# Altium schematic symbol library BACKPLANElib.SchLib: 13 symbols
Pins are listed as number, name and electrical type; pins without a type are passive.

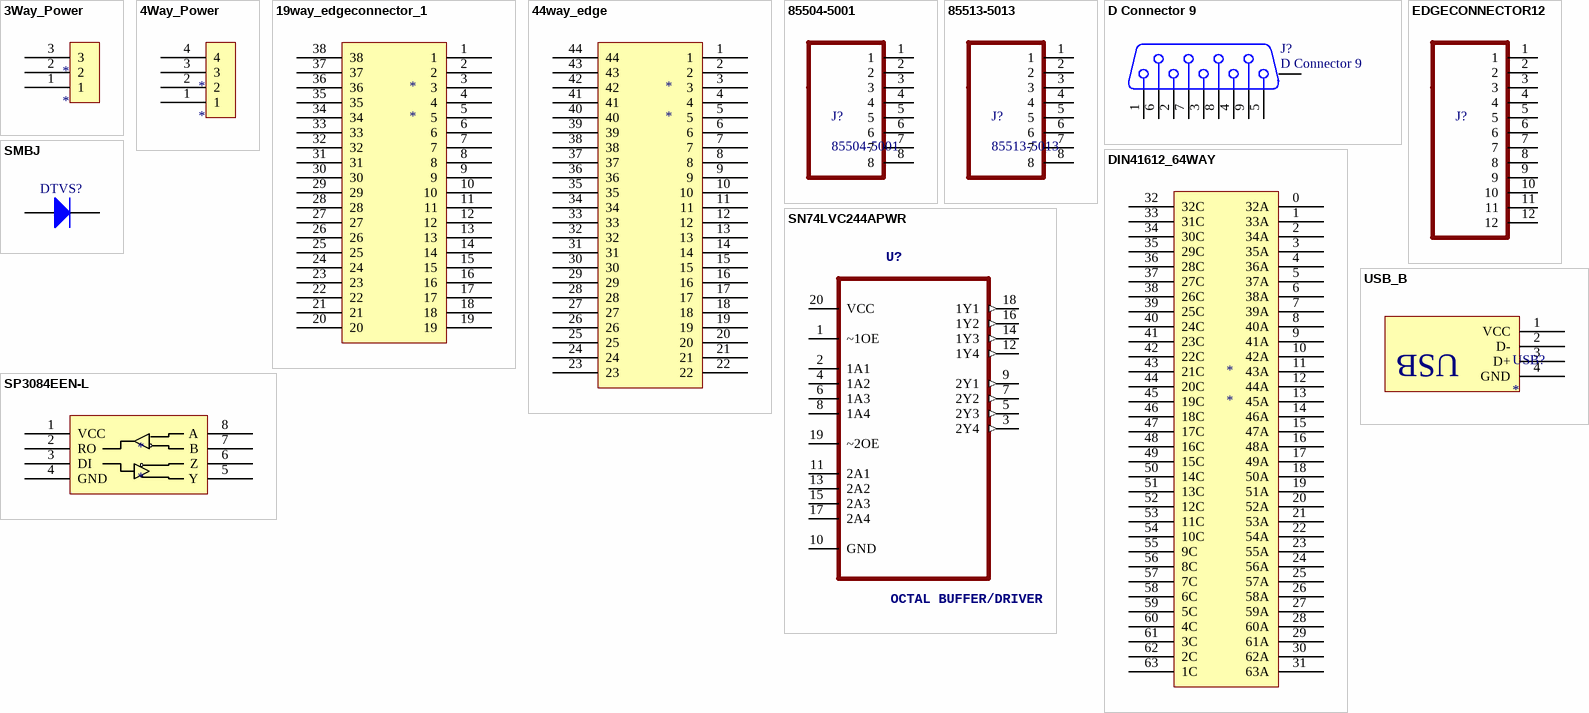
[diagram p0: symbols 3Way_Power to USB_B]

## 3Way_Power
designator *
PartNo: 1725669
footprint 3Way_Screw_Power
pins: 1, 2, 3

## 4Way_Power
designator *
PartNo: 1725669
footprint 4Way_Screw_Power
pins: 1, 2, 3, 4

## 19way_edgeconnector_1
designator *
footprint FCI-2x19WAY
pins: 1, 2, 3, 4, 5, 6, 7, 8, 9, 10, 11, 12, 13, 14, 15, 16, 17, 18, 19, 20, 21, 22, 23, 24, 25, 26, 27, 28, 29, 30, 31, 32, 33, 34, 35, 36, 37, 38

## 44way_edge
designator *
footprint EDAC_EDGE
pins: 1, 2, 3, 4, 5, 6, 7, 8, 9, 10, 11, 12, 13, 14, 15, 16, 17, 18, 19, 20, 21, 22, 23, 24, 25, 26, 27, 28, 29, 30, 31, 32, 33, 34, 35, 36, 37, 38, 39, 40, 41, 42, 43, 44

## 85504-5001
designator J?
MPN: 85504-5001; OC_FARNELL: 2313732; OC_NEWARK: 96W3689; PACKAGE: RJ45, JACK, 8P8C; SUPPLIER: MOLEX
footprint RJ45.STRAIGHT
pins: 1, 2, 3, 4, 5, 6, 7, 8

## 85513-5013
designator J?
MPN: 85513-5013; PACKAGE: RJ45, JACK, 8P8C; SUPPLIER: MOLEX; PartNo: 85513-5013
footprint RJ45_SMD_VERT
pins: 1, 2, 3, 4, 5, 6, 7, 8

## D Connector 9
designator J?
Receptacle Assembly, 9 Position, Right Angle; PartNo: 1734354-1; PackageDocument: O; Positions: 9; Published: 15-Jun-2001; LatestRevisionDate: 17-Jul-2002; LatestRevisionNote: Re-released for DXP Platform.; DatasheetDocument: 1-Sep-1999; PackageReference: 788750; Publisher: Altium Limited; Orientation: Right Angle; Gender: Receptacle
signal-integrity model Connector
footprint DSUB1.STRAIGHT
pins: 0, 1, 2, 3, 4, 5, 6, 7, 8, 9

## DIN41612_64WAY
designator *
footprint 09 03 164 6919
pins: 0 32A, 1 33A, 2 34A, 3 35A, 4 36A, 5 37A, 6 38A, 7 39A, 8 40A, 9 41A, 10 42A, 11 43A, 12 44A, 13 45A, 14 46A, 15 47A, 16 48A, 17 49A, 18 50A, 19 51A, 20 52A, 21 53A, 22 54A, 23 55A, 24 56A, 25 57A, 26 58A, 27 59A, 28 60A, 29 61A, 30 62A, 31 63A, 32 32C, 33 31C, 34 30C, 35 29C, 36 28C, 37 27C, 38 26C, 39 25C, 40 24C, 41 23C, 42 22C, 43 21C, 44 20C, 45 19C, 46 18C, 47 17C, 48 16C, 49 15C, 50 14C, 51 13C, 52 12C, 53 11C, 54 10C, 55 9C, 56 8C, 57 7C, 58 6C, 59 5C, 60 4C, 61 3C, 62 2C, 63 1C

## EDGECONNECTOR12
designator J?
MPN: 85504-5001; OC_FARNELL: 2313732; OC_NEWARK: 96W3689; PACKAGE: RJ45, JACK, 8P8C; SUPPLIER: MOLEX
footprint EDGECONNECTOR12
pins: 1, 2, 3, 4, 5, 6, 7, 8, 9, 10, 11, 12

## SMBJ
designator DTVS?, comment SMBJ24A-E3/52  (value not drawn)
TVS; Note: Pin 2 is not connected and not drawn.; Published: 21-Mar-2003; LatestRevisionDate: 29-May-2009; LatestRevisionNote: IPC-7351 Footprint Added.; DatasheetVersion: Oct-1999; PackageVersion: Sep-2001; PackageReference: SOT-23; Publisher: Altium Limited; PackageDescription: 3-Pin SOT-23 Package 0.95 mm Pitch, 2.5 mm Lead Span; ComponentLink1Description: Manufacturer Link; ComponentLink1URL: http://www.infineon.com/; ComponentLink2Description: Datasheet; ComponentLink2URL: http://www.infineon.com/upload/Document/cmc_upload/documents/080/656/bas116series.pdf; PartNo: SMBJ24A-E3/52
footprint DO-214AA
pins: 1 K, 2 A

## SN74LVC244APWR
designator U?, comment OCTAL BUFFER/DRIVER
MPN: SN74LVC244APWR; OC_FARNELL: 1105933; OC_NEWARK: 10C2401; PACKAGE: TSSOP-20; SUPPLIER: Texas Instruments
footprint SOP65P640X120-20N
pins: 1 ~1OE, 2 1A1, 3 2Y4 (out), 4 1A2, 5 2Y3 (out), 6 1A3, 7 2Y2 (out), 8 1A4, 9 2Y1 (out), 10 GND, 11 2A1, 12 1Y4 (out), 13 2A2, 14 1Y3 (out), 15 2A3, 16 1Y2 (out), 17 2A4, 18 1Y1 (out), 19 ~2OE, 20 VCC (power)

## SP3084EEN-L
designator *
footprint SOICN8
pins: 1 VCC, 2 RO, 3 DI, 4 GND, 5 Y, 6 Z, 7 B, 8 A

## USB_B
designator USB?
footprint USB_B_VERTICAL
pins: 1 VCC, 2 D-, 3 D+, 4 GND
text: USB